# EAGLE library part MBED-CONNECTORS_USB_NEW (library m3pi)
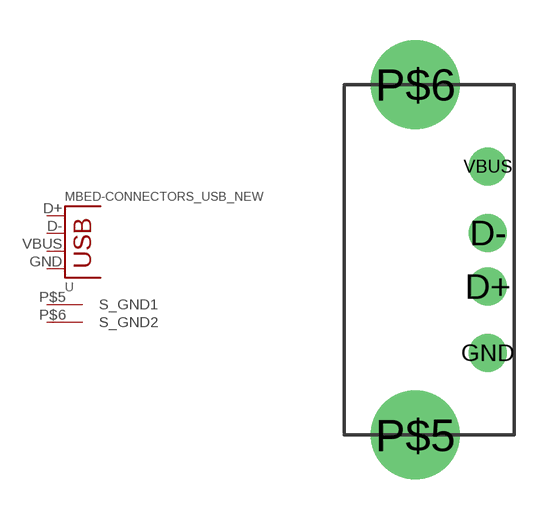
[diagram p3: symbol with the pads of MBED-CONNECTORS_USB-A-V; footprint MBED-CONNECTORS_USB-A-V]

Designator prefix -

## MBED-CONNECTORS_USB_NEW  [MBED-CONNECTORS_USB-A-V]
D+  D+
D-  D-
GND  GND
P$5  S_GND1
P$6  S_GND2
VBUS  VBUS

## Footprint MBED-CONNECTORS_USB-A-V (pad centres in mm)
drill 0.914: D+ 2.718,0.267; D- 2.718,2.273; GND 2.718,-2.223; VBUS 2.718,4.763
drill 2.311: P$5 0,-5.296; P$6 0,7.836